# Altium footprint library HDR_2X5_2.54_RA.PcbLib: 1 footprints
Each footprint in its own frame and in the unit in brackets; x right, y up, seen from the top. Pads: shape width x height; smd on the part's side, far side on the other; paste and mask are expansions set on the pad; w line width, h text height; cw(c..) or ccw(c..) is an arc to the next point about the centre after c.
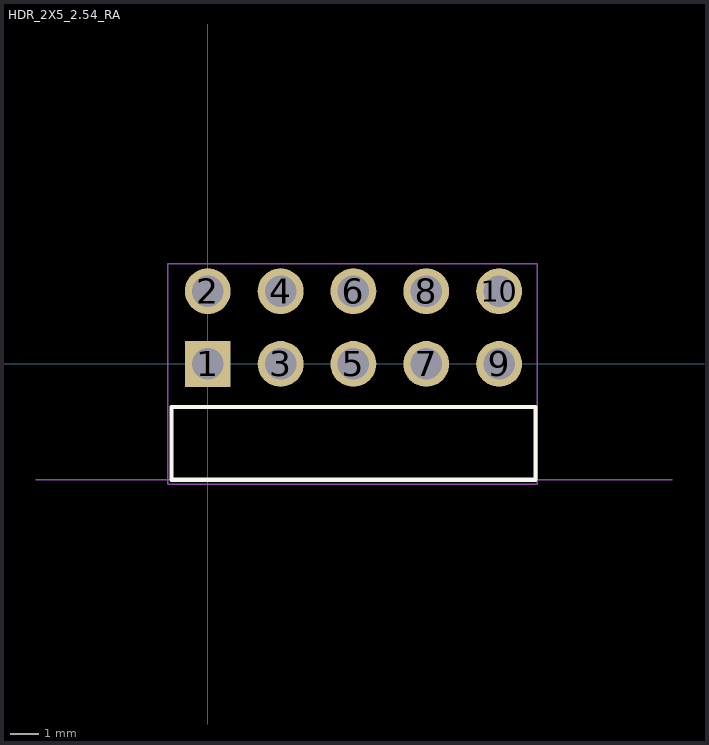
[diagram p0: the footprint, top view; thin cyan lines are the x and y axes]

## HDR_2X5_2.54_RA [mm]
height 11.6
pads (10):
  rect 1.6x1.6 hole 1.1: 1(0,0)
  round 1.6 hole 1.1: 2(0,2.54) 3(2.54,0) 4(2.54,2.54) 5(5.08,0) 6(5.08,2.54) 7(7.62,0) 8(7.62,2.54) 9(10.16,0) 10(10.16,2.54)
Top Overlay:
  lines w0.15: -1.27,-4.04 11.43,-4.04 11.43,-1.5 -1.27,-1.5 -1.27,-4.04
Mechanical 13:
  lines w0.05: -6,-4.04 -1.27,-4.04 ; 16.2,-4.04 -1.27,-4.04 ; -1.27,-4.04 -1.27,-1.5 11.43,-1.5 11.43,-4.04 -1.27,-4.04
  text "Board Edge" at 12.5,-3.8 h0.7
Mechanical 15:
  lines w0.05: -1.397,-4.2 -1.397,3.5 11.5,3.5 11.5,-4.2 -1.397,-4.2
3D body: height 5.1, standoff -2.98, extent -1.29,-10.07 11.41,2.83